# EAGLE library part SP708SEN-L (library Sipex_By_element14_Batch_1)
Low Power Microprocessor Supervisory Circuit
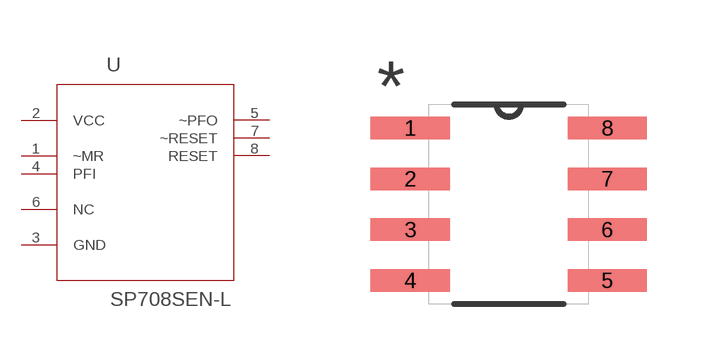
[diagram p5: symbol with the pads of SOIC127P600X175-8N; footprint SOIC127P600X175-8N]

Designator prefix U

## SP708SEN-L (MPN: SP708SEN-L; OC_FARNELL: 1829405; OC_NEWARK: 84R4429; PACKAGE: SOIC-8; SUPPLIER: Sipex Corporation)  [SOIC127P600X175-8N]
1  ~MR  in
2  VCC  pwr
3  GND  in
4  PFI  in
5  ~PFO  out
6  NC  nc
7  ~RESET  out
8  RESET  out

## Footprint SOIC127P600X175-8N (pad centres in mm)
smd 1.981 x 0.559: 1 -2.464,1.905; 2 -2.464,0.635; 3 -2.464,-0.635; 4 -2.464,-1.905; 5 2.464,-1.905; 6 2.464,-0.635; 7 2.464,0.635; 8 2.464,1.905